# Altium footprint library Mechanical_Connectors_Rectangular_2.54_PL.PcbLib: 8 footprints
Each footprint in its own frame and in the unit in brackets; x right, y up, seen from the top. Pads: shape width x height; smd on the part's side, far side on the other; paste and mask are expansions set on the pad; w line width, h text height; cw(c..) or ccw(c..) is an arc to the next point about the centre after c.
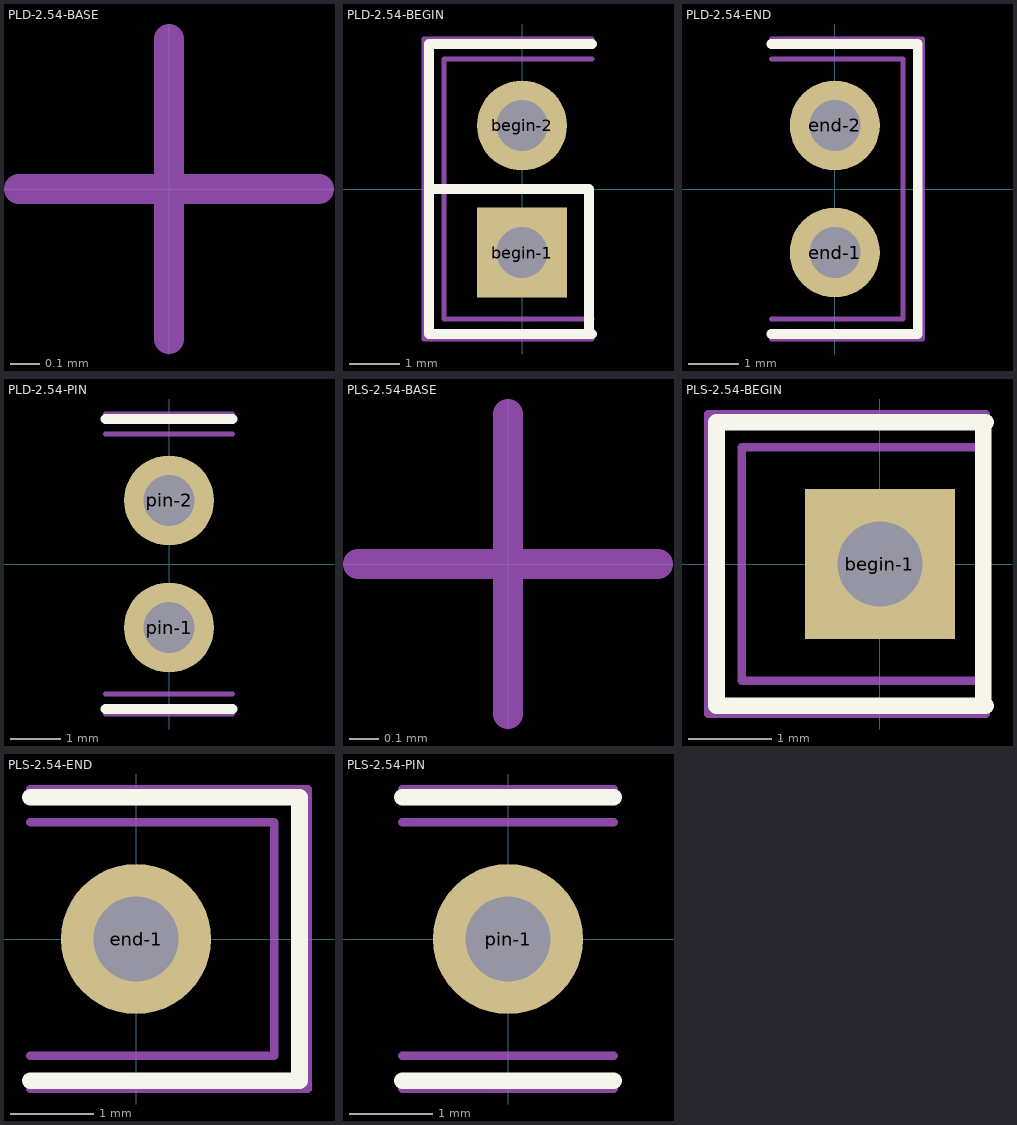
[diagram p0: the footprints below, top view; thin cyan lines are the x and y axes]

## PLD-2.54-BASE [mm]
height 8.54
Top Comment:
  text ".Comment" at -2.835,3.549 h2
Top Designator:
  text ".Designator" at -4.299,3.617 h2.5
Top Border:
  lines w0.1: -0.5,0 0.5,0 ; 0,-0.5 0,0.5 ; -0.508,0 0.508,0 -0.508,0 ; 0,-0.508 0,0.508 0,-0.508

## PLD-2.54-BEGIN [mm]
height 8.54
pads (2):
  rect 1.8x1.8 hole 1.02: begin-1(0,-1.27)
  round 1.8 hole 1.02: begin-2(0,1.27)
Top Overlay:
  lines w0.2: -1.86,0 1.34,0 1.34,-2.9 ; 1.4,-2.9 -1.86,-2.9 -1.86,2.9 1.4,2.9
Top Package:
  circle w0.1: c0,1.27 r0.4
  circle w0.1: c0,-1.27 r0.4
  lines w0.1: 1.4,-2.6 -1.56,-2.6 -1.56,2.6 1.4,2.6
Top Border:
  lines w0.1: 1.4,-3 -1.96,-3 -1.96,3 1.4,3
3D body "PL-2x V1.stp": height 9.2, standoff -3.5, extent -1.27,-2.54 1.27,2.54

## PLD-2.54-END [mm]
height 8.54
pads (2):
  round 1.8 hole 1.02: end-1(0,-1.27) end-2(0,1.27)
Top Overlay:
  lines w0.2: -1.27,-2.9 1.66,-2.9 1.66,2.9 -1.27,2.9
Top Package:
  circle w0.1: c0,1.27 r0.4
  circle w0.1: c0,-1.27 r0.4
  lines w0.1: -1.27,-2.6 1.36,-2.6 1.36,2.6 -1.27,2.6
Top Border:
  lines w0.1: -1.27,-3 1.76,-3 1.76,3 -1.27,3
3D body "PL-2x V1.stp": height 9.2, standoff -3.5, extent -1.27,-2.54 1.27,2.54

## PLD-2.54-PIN [mm]
height 8.54
pads (2):
  round 1.8 hole 1.02: pin-1(0,-1.27) pin-2(0,1.27)
Top Overlay:
  lines w0.2: -1.27,-2.9 1.27,-2.9 ; -1.27,2.9 1.27,2.9
Top Package:
  circle w0.1: c0,-1.27 r0.4
  circle w0.1: c0,1.27 r0.4
  lines w0.1: -1.27,-2.6 1.27,-2.6 ; -1.27,2.6 1.27,2.6
Top Border:
  lines w0.1: -1.27,-3 1.27,-3 ; -1.27,3 1.27,3
3D body "PL-2x V1.stp": height 9.2, standoff -3.5, extent -1.27,-2.54 1.27,2.54

## PLS-2.54-BASE [mm]
height 8.54
Top Comment:
  text ".Comment" at -2.835,2.349 h2
Top Designator:
  text ".Designator" at -4.299,2.417 h2.5
Top Border:
  lines w0.1: -0.5,0 0.5,0 ; 0,-0.5 0,0.5 ; -0.508,0 0.508,0 -0.508,0 ; 0,-0.508 0,0.508 0,-0.508

## PLS-2.54-BEGIN [mm]
height 8.54
pads (1):
  rect 1.8x1.8 hole 1.02: begin-1(0,0)
Top Overlay:
  lines w0.2: 1.24,-1.7 1.24,1.7 ; 1.27,-1.7 -1.96,-1.7 -1.96,1.7 1.27,1.7
Top Package:
  circle w0.1: c0,0 r0.4
  lines w0.1: 1.27,-1.4 -1.66,-1.4 -1.66,1.4 1.27,1.4
Top Border:
  lines w0.1: 1.27,-1.8 -2.06,-1.8 -2.06,1.8 1.27,1.8
3D body "PL-1x-v1.stp": height 9.2, standoff -3.5, extent -1.27,-1.27 1.27,1.27

## PLS-2.54-END [mm]
height 8.54
pads (1):
  round 1.8 hole 1.02: end-1(0,0)
Top Overlay:
  lines w0.2: -1.27,-1.7 1.96,-1.7 1.96,1.7 -1.27,1.7
Top Package:
  circle w0.1: c0,0 r0.4
  lines w0.1: -1.27,-1.4 1.66,-1.4 1.66,1.4 -1.27,1.4
Top Border:
  lines w0.1: -1.27,-1.8 2.06,-1.8 2.06,1.8 -1.27,1.8
3D body "PL-1x-v1.stp": height 9.2, standoff -3.5, extent -1.27,-1.27 1.27,1.27

## PLS-2.54-PIN [mm]
height 8.54
pads (1):
  round 1.8 hole 1.02: pin-1(0,0)
Top Overlay:
  lines w0.2: -1.27,-1.7 1.27,-1.7 ; -1.27,1.7 1.27,1.7
Top Package:
  circle w0.1: c0,0 r0.4
  lines w0.1: -1.27,-1.4 1.27,-1.4 ; -1.27,1.4 1.27,1.4
Top Border:
  lines w0.1: -1.27,-1.8 1.27,-1.8 ; -1.27,1.8 1.27,1.8
3D body "PL-1x-v1.stp": height 9.2, standoff -3.5, extent -1.27,-1.27 1.27,1.27